# EAGLE library part LM7171BIM (library LM7171BIM--Symbol-Eagle-472)
OpAmpIC
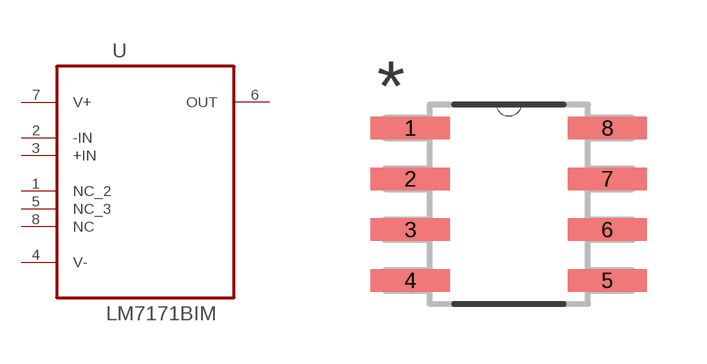
[diagram p0: symbol with the pads of SOIC127P600X175-8N; footprint SOIC127P600X175-8N]

Designator prefix U

## LM7171BIM (MPN: LM7171BIM; OC_FARNELL: 1468934; OC_NEWARK: 41K6275; PACKAGE: SOIC-8; SUPPLIER: NationalSemiconductor)  [SOIC127P600X175-8N]
1  NC_2  nc
2  -IN  in
3  +IN  in
4  V-  pwr
5  NC_3  nc
6  OUT  out
7  V+  pwr
8  NC  nc

## Footprint SOIC127P600X175-8N (pad centres in mm)
smd 1.981 x 0.559: 1 -2.464,1.905; 2 -2.464,0.635; 3 -2.464,-0.635; 4 -2.464,-1.905; 5 2.464,-1.905; 6 2.464,-0.635; 7 2.464,0.635; 8 2.464,1.905